# Altium footprint library AnchorBoard_SNS.PcbLib: 45 footprints (part 1 of 3)
Each footprint in its own frame and in the unit in brackets; x right, y up, seen from the top. Pads: shape width x height; smd on the part's side, far side on the other; paste and mask are expansions set on the pad; w line width, h text height; cw(c..) or ccw(c..) is an arc to the next point about the centre after c.
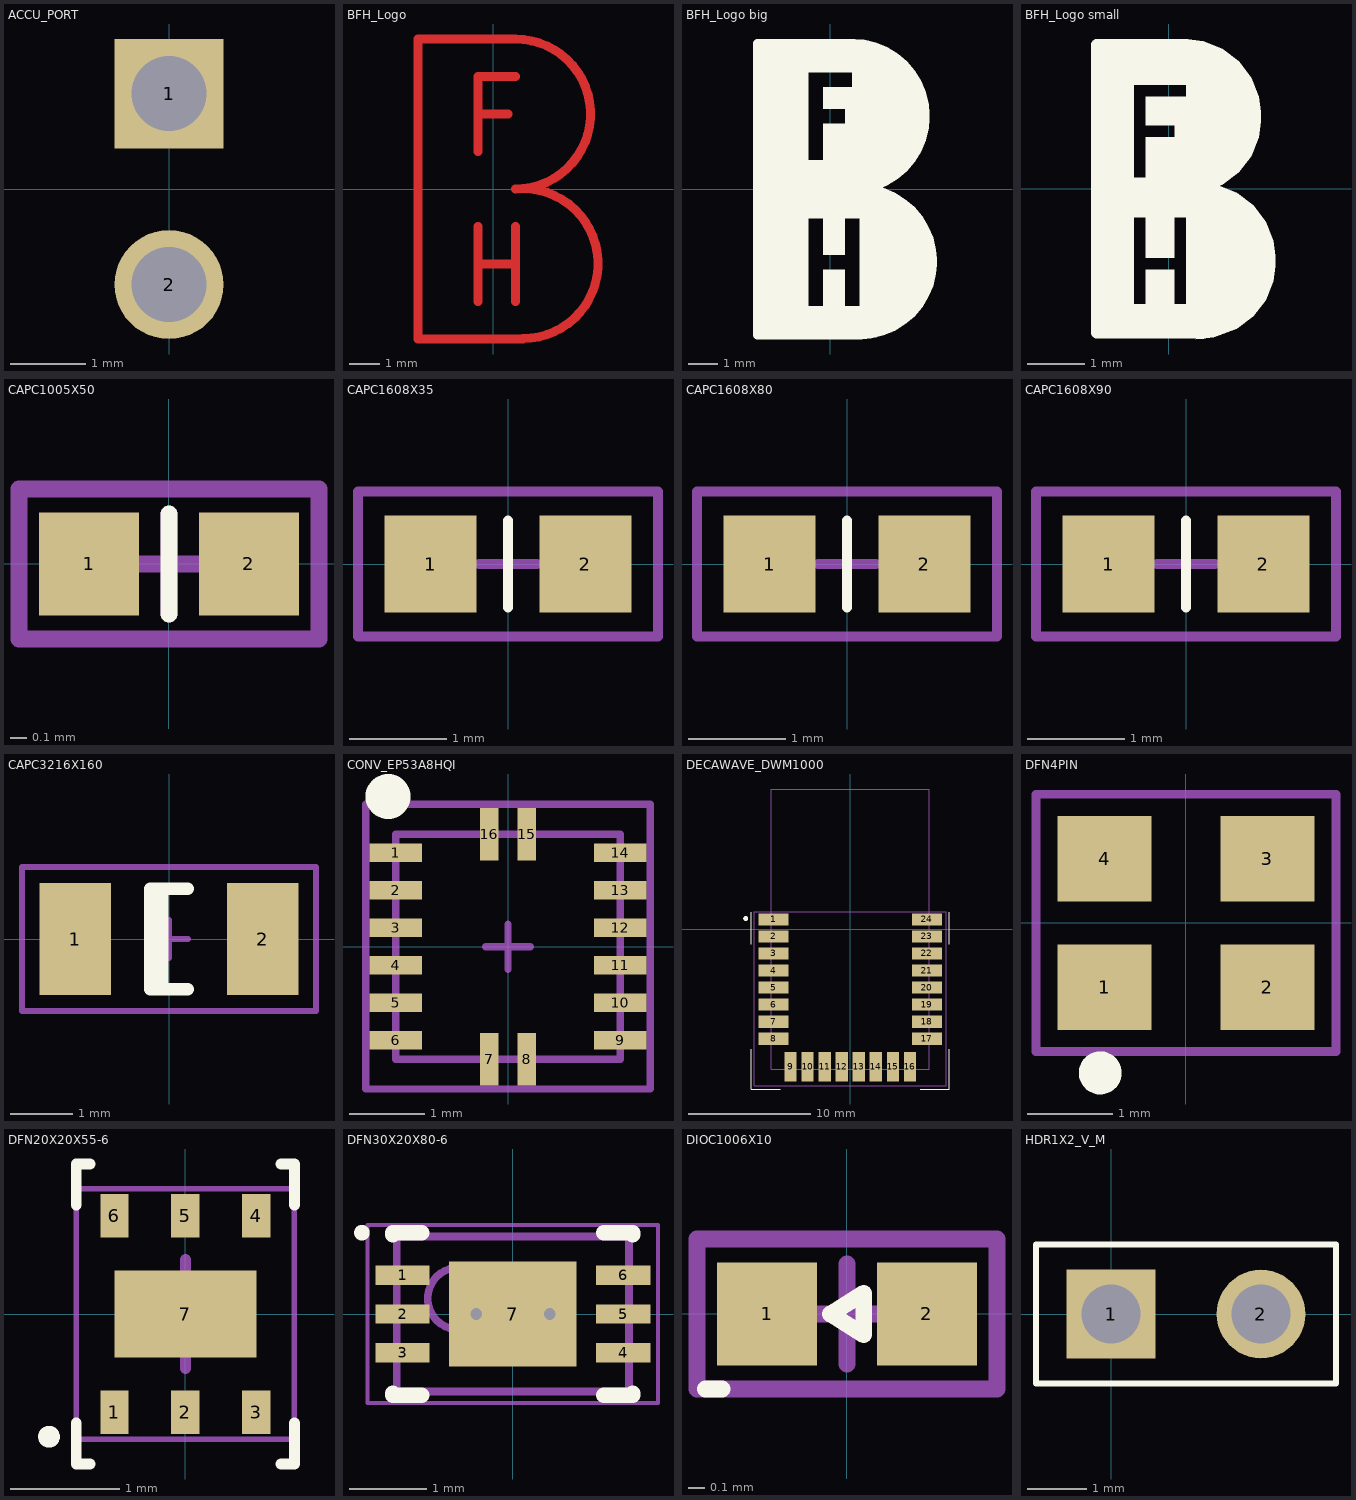
[diagram p0: the footprints below, top view; thin cyan lines are the x and y axes]

## ACCU_PORT [mm] "Cable Solder Holes"
height 5
pads (2):
  rect 1.455x1.455 hole 1: 1(0,1.27)
  round 1.45 hole 1: 2(0,-1.27)

## BFH_Logo [mm]
Top Layer:
  lines w0.3: -0.5,-3.75 -0.5,-1.25 ; -0.5,-2.5 0.75,-2.5 ; -0.5,1.25 -0.5,3.75 0.75,3.75 ; -0.5,2.5 0.5,2.5 ; 0.75,-3.75 0.75,-1.25 ; 0.75,0 cw(c0.999,-2.488) 0.999,-4.988 ; 0.999,0.012 ccw(c0.75,2.5) 0.75,5 -2.5,5 -2.5,-5 1,-5
Top Solder:
  lines w0.3: -0.5,-3.75 -0.5,-1.25 ; -0.5,-2.5 0.75,-2.5 ; -0.5,1.25 -0.5,3.75 0.75,3.75 ; -0.5,2.5 0.5,2.5 ; 0.75,-3.75 0.75,-1.25 ; 0.75,0 cw(c0.999,-2.488) 0.999,-4.988 ; 0.999,0.012 ccw(c0.75,2.5) 0.75,5 -2.5,5 -2.5,-5 1,-5

## BFH_Logo big [mm]
Top Overlay:
  rectangle: 1,-4.75 1.75,-1
  rectangle: -0.75,-5 1.5,-4
  rectangle: -0.25,-4 0.5,-2.75
  rectangle: -0.25,-2.25 0.5,-1
  rectangle: 0.5,2.25 0.75,2.75
  rectangle: -0.75,-1 1.5,1
  rectangle: -0.25,1 1,2.25
  rectangle: -0.25,2.75 0.75,3.5
  rectangle: 0.75,0 1.25,4
  rectangle: -0.75,4 1.5,5
  rectangle: -2.5,-5 -0.75,5
  region: 1.014,-0.137 0.98,-0.141 0.884,-0.103 0.836,0.012 0.926,0.156 0.984,0.162 1.155,0.179 1.094,0.176 1.117,0.179 1.094,0.223 1.1,0.25 1.1,4.75 1.1,4.812 1.112,4.811 1.117,4.821 0.912,4.853 0.75,4.85 0.72,4.85 0.635,4.885 0.587,5 0.635,5.115 0.72,5.15 0.75,5.15 0.854,5.15 1.166,5.126 1.572,5.028 1.957,4.869 2.313,4.651 2.63,4.38 2.901,4.063 3.119,3.707 3.278,3.322 3.376,2.916 3.4,2.604 3.4,2.5 3.4,2.396 3.376,2.084 3.278,1.678 3.119,1.293 2.901,0.937 2.63,0.62 2.313,0.349 1.957,0.131 1.572,-0.028 1.155,-0.123
  region: 0.999,-5.138 0.969,-5.138 0.884,-5.103 0.836,-4.988 0.884,-4.872 0.969,-4.837 0.999,-4.837 1.114,-4.837 1.094,-4.836 1.125,-4.834 1.095,-4.789 1.1,-4.75 1.1,-0.14 0.959,-0.134 0.823,-0.144 0.765,-0.15 0.731,-0.153 0.635,-0.115 0.587,0 0.677,0.144 0.735,0.15 0.905,0.167 1.192,0.157 1.256,0.15 1.317,0.148 1.25,0.152 1.274,0.148 1.413,0.134 1.82,0.041 2.206,-0.119 2.561,-0.337 2.879,-0.608 3.15,-0.925 3.368,-1.281 3.527,-1.666 3.625,-2.072 3.649,-2.383 3.649,-2.488 3.649,-2.592 3.625,-2.903 3.527,-3.309 3.368,-3.695 3.15,-4.05 2.879,-4.367 2.561,-4.638 2.206,-4.856 1.82,-5.016 1.415,-5.113 1.103,-5.138
  lines w0.3: 0.75,0 cw(c0.999,-2.488) 0.999,-4.988 ; 0.999,0.012 ccw(c0.75,2.5) 0.75,5 -2.5,5 -2.5,-5 1,-5

## BFH_Logo small [mm]
Top Overlay:
  rectangle: -0.4,-2 0.1,-1.4
  rectangle: -0.4,-1.2 0.1,-0.5
  rectangle: 0.3,1.6 0.6,1.9
  rectangle: 0.1,0.9 0.9,1.2
  rectangle: 0.3,-2 0.8,-0.4
  rectangle: -0.6,-0.5 0.8,0.2
  rectangle: -0.6,-2.4 0.8,-2
  rectangle: -0.4,0.2 0.9,0.9
  rectangle: -0.4,1.1 0.6,1.6
  rectangle: -0.6,1.8 0.6,2.5
  rectangle: -1.25,-2.5 -0.6,2.5
  region: 1.6,1.25 1.6,1.339 1.566,1.603 1.43,1.931 1.213,2.213 0.931,2.43 0.603,2.566 0.339,2.6 0.25,2.6 0.23,2.6 0.173,2.577 0.141,2.5 0.173,2.423 0.23,2.4 0.25,2.4 0.325,2.4 0.362,2.395 0.4,2.39 0.4,0.2 0.4,0.18 0.426,0.127 0.449,0.113 0.424,0.101 0.386,0.024 0.418,-0.053 0.49,-0.079 0.515,-0.074 0.623,-0.053 0.931,0.07 1.213,0.287 1.43,0.569 1.566,0.897 1.6,1.161
  region: 0.5,-2.6 0.48,-2.6 0.423,-2.577 0.391,-2.5 0.423,-2.423 0.48,-2.4 0.5,-2.4 0.575,-2.4 0.502,-2.4 0.502,-0.1 0.426,-0.1 0.5,-0.1 0.48,-0.1 0.423,-0.077 0.391,0 0.423,0.077 0.48,0.1 0.5,0.1 0.589,0.1 0.853,0.066 1.181,-0.07 1.463,-0.287 1.68,-0.569 1.816,-0.897 1.85,-1.161 1.85,-1.25 1.85,-1.339 1.816,-1.603 1.68,-1.931 1.463,-2.213 1.181,-2.43 0.781,-2.578 0.64,-2.593 0.612,-2.604 0.586,-2.599 0.581,-2.598 0.472,-2.604 0.5,-2.6
  lines w0.2: 0.25,2.5 -1.25,2.5 -1.25,-2.5 0.5,-2.5

## CAPC1005X50 [mm] "Chip Capacitor; 1.0x0.5mm"
height 0.5
pads (2):
  rect 0.6x0.62 smd: 1(-0.48,0) 2(0.48,0)
Top Overlay:
  lines w0.1: 0,-0.3 0,0.3
Mechanical 15:
  lines w0.1: -0.3,0 0.3,0 0,0 ; 0,-0.3 0,0.3 ; -0.9,-0.45 -0.9,0.45 0.9,0.45 0.9,-0.45 -0.9,-0.45
3D body: height 0.35, standoff 0, extent -0.3,-0.25 0.3,0.25
3D body: height 0.35, standoff 0, extent -0.5,-0.25 -0.3,0.25
3D body: height 0.35, standoff 0, extent 0.3,-0.25 0.5,0.25

## CAPC1608X35 [mm] "Chip Capacitor; 1.6x0.8mm"
height 0.35
pads (2):
  rect 0.95x1 smd: 1(-0.8,0) 2(0.8,0)
Top Overlay:
  lines w0.1: 0,-0.45 0,0.45
Mechanical 15:
  lines w0.1: -0.3,0 0.3,0 ; 0,-0.3 0,0.3 ; -1.55,-0.75 -1.55,0.75 1.55,0.75 1.55,-0.75 -1.55,-0.75
3D body: height 0.8, standoff 0, extent -0.4,-0.4 0.4,0.4
3D body: height 0.8, standoff 0, extent -0.8,-0.4 -0.4,0.4
3D body: height 0.8, standoff 0, extent 0.4,-0.4 0.8,0.4

## CAPC1608X80 [mm] "Chip Capacitor; 1.6x0.8mm"
height 0.8
pads (2):
  rect 0.95x1 smd: 1(-0.8,0) 2(0.8,0)
Top Overlay:
  lines w0.1: 0,-0.45 0,0.45
Mechanical 15:
  lines w0.1: -0.3,0 0.3,0 ; 0,-0.3 0,0.3 ; -1.55,-0.75 -1.55,0.75 1.55,0.75 1.55,-0.75 -1.55,-0.75
3D body: height 0.8, standoff 0, extent -0.4,-0.4 0.4,0.4
3D body: height 0.8, standoff 0, extent -0.8,-0.4 -0.4,0.4
3D body: height 0.8, standoff 0, extent 0.4,-0.4 0.8,0.4

## CAPC1608X90 [mm] "Chip Capacitor; 1.6x0.8mm"
height 0.9
pads (2):
  rect 0.95x1 smd: 1(-0.8,0) 2(0.8,0)
Top Overlay:
  lines w0.1: 0,-0.45 0,0.45
Mechanical 15:
  lines w0.1: -0.3,0 0.3,0 ; 0,-0.3 0,0.3 ; -1.55,-0.75 -1.55,0.75 1.55,0.75 1.55,-0.75 -1.55,-0.75
3D body: height 0.8, standoff 0, extent -0.4,-0.4 0.4,0.4
3D body: height 0.8, standoff 0, extent -0.8,-0.4 -0.4,0.4
3D body: height 0.8, standoff 0, extent 0.4,-0.4 0.8,0.4

## CAPC3216X160 [mm] "Chip Capacitor; 3.2x1.6mm"
height 1.6
pads (2):
  rect 1.15x1.8 smd: 1(-1.5,0) 2(1.5,0)
Top Overlay:
  lines w0.2: -0.11,-0.8 -0.11,0.8 ; 0.3,-0.8 -0.3,-0.8 -0.3,0.8 0.3,0.8
Mechanical 15:
  lines w0.1: -0.3,0 0.3,0 ; 0,-0.3 0,0.3 ; -2.35,-1.15 2.35,-1.15 2.35,1.15 -2.35,1.15 -2.35,-1.15
3D body: height 1.3, standoff 0, extent -1.1,-0.8 1.1,0.8
3D body: height 1.3, standoff 0, extent -1.6,-0.8 -1.1,0.8
3D body: height 1.3, standoff 0, extent 1.1,-0.8 1.6,0.8

## CONV_EP53A8HQI [mm]
height 1.1
pads (16):
  rect 0.7x0.25 smd paste-0.06 mask+0.05: 1(-1.5,1.25) 2(-1.5,0.75) 3(-1.5,0.25) 4(-1.5,-0.25) 5(-1.5,-0.75) 6(-1.5,-1.25) 9(1.5,-1.25) 10(1.5,-0.75) 11(1.5,-0.25) 12(1.5,0.25) 13(1.5,0.75) 14(1.5,1.25)
  rect 0.25x0.7 smd paste-0.06 mask+0.05: 7(-0.25,-1.5) 8(0.25,-1.5) 15(0.25,1.5) 16(-0.25,1.5)
Top Overlay:
  circle w0.4: c-1.6,2 r0.1
Mechanical 13:
  lines w0.1: -1.5,-1.5 -1.5,1.5 1.5,1.5 1.5,-1.5 -1.5,-1.5
Mechanical 15:
  lines w0.1: -0.3,0 0.3,0 ; 0,-0.3 0,0.3 ; -1.9,-1.9 1.9,-1.9 1.9,1.9 -1.9,1.9 -1.9,-1.9
  text "1" at -3,0.8 h1.52
3D body: height 1.1, standoff 0, extent -1.5,-1.5 1.5,1.5

## DECAWAVE_DWM1000 [mm] "DecaWave DWM1000 module"
height 4
pads (24):
  rect 2.45x1 smd: 1(-6.295,0.8) 2(-6.295,-0.6) 3(-6.295,-2) 4(-6.295,-3.4) 5(-6.295,-4.8) 6(-6.295,-6.2) 7(-6.295,-7.6) 8(-6.295,-9) 17(6.295,-9) 18(6.295,-7.6) 19(6.295,-6.2) 20(6.295,-4.8) 21(6.295,-3.4) 22(6.295,-2) 23(6.295,-0.6) 24(6.295,0.8)
  rect 1x2.45 smd: 9(-4.9,-11.295) 10(-3.5,-11.295) 11(-2.1,-11.295) 12(-0.7,-11.295) 13(0.7,-11.295) 14(2.1,-11.295) 15(3.5,-11.295) 16(4.9,-11.295)
Top Overlay:
  lines w0.1: -8.125,-9.875 -8.125,-13.125 -5.75,-13.125 ; -8.125,-1.25 -8.125,1.375 ; 5.75,-13.125 8.125,-13.125 8.125,-9.875 ; 8.125,-1.25 8.125,1.375
  lines w0.254: -8.502,0.894 ccw(c-8.579,0.875) -8.5,0.875
Mechanical 13:
  lines w0.1: -6.5,1.425 6.5,1.425 ; -6.5,-11.5 -6.5,11.5 6.5,11.5 6.5,-11.5 -6.5,-11.5
Mechanical 15:
  lines w0.1: -7.875,-12.875 7.875,-12.875 7.875,1.425 -7.875,1.425 -7.875,-12.875
3D body: height 2.9, standoff -0.01, extent -6.5,-11.475 6.5,11.525

## DFN4PIN [mm] "Oscillator Silicon Labs Si501"
height 0.9
pads (4):
  rect 1.1x1 smd: 1(-0.95,-0.75) 2(0.95,-0.75) 3(0.95,0.75) 4(-0.95,0.75)
Top Overlay:
  circle w0.25: c-1,-1.75 r0.125
Mechanical 15:
  lines w0.1: -1.75,-1.5 -1.75,1.5 1.75,1.5 1.75,-1.5 -1.75,-1.5
3D body: height 0.9, standoff 0, extent -1.225,-1 1.275,1
3D body: height 0.96, standoff 0.95, extent -1.097,-0.874 -0.5,-0.275

## DFN20X20X55-6 [mm] "MIC2039"
height 0.55
pads (7):
  rect 0.26x0.4 smd mask+0.102: 1(-0.65,-0.9) 2(0,-0.9) 3(0.65,-0.9) 4(0.65,0.9) 5(0,0.9) 6(-0.65,0.9)
  rect 1.3x0.8 smd mask+0.102: 7(0,0)
Top Overlay:
  circle w0.1: c-1.25,-1.125 r0.05
  lines w0.1: -1,-1 -1,-1.375 -0.875,-1.375 ; -1,1 -1,1.375 -0.875,1.375 ; 0.875,-1.375 1,-1.375 1,-1 ; 0.875,1.375 1,1.375 1,1
Mechanical 15:
  lines w0.05: -1,-1.15 -1,1.15 1,1.15 1,-1.15 -1,-1.15
  lines w0.1: -0.5,0 0.5,0 ; 0,-0.5 0,0.5

## DFN30X20X80-6 [mm] "LTC2941-1"
height 0.8
pads (7):
  rect 0.7x0.25 smd mask+0.08: 1(-1.425,0.5) 2(-1.425,0) 3(-1.425,-0.5) 4(1.425,-0.5) 5(1.425,0) 6(1.425,0.5)
  rect 1.65x1.35 smd paste-0.2 mask+0.102: 7(0,0)
via -0.475,0 diameter 0.65 hole 0.15
via 0.475,0 diameter 0.65 hole 0.15
Top Overlay:
  circle w0.1: c-1.95,1.05 r0.05
  lines w0.2: -1.55,-1.025 -1.55,-1.05 -1.175,-1.05 ; -1.55,1.025 -1.55,1.05 -1.175,1.05 ; 1.175,-1.05 1.55,-1.05 1.55,-1.025 ; 1.175,1.05 1.55,1.05 1.55,1.025
Mechanical 13:
  circle w0.1: c-0.7,0.2 r0.4
  lines w0.1: -1.5,-1 -1.5,1 1.5,1 1.5,-1 -1.5,-1
Mechanical 15:
  lines w0.05: -1.875,-1.15 -1.875,1.15 1.875,1.15 1.875,-1.15 -1.875,-1.15
  lines w0.1: -0.5,0 0.5,0 ; 0,-0.5 0,0.5
3D body: height 0.8, standoff 0, extent -1.5,-1 1.5,1

## DIOC1006X10 [mm] "Chip Diode 1x0.6mm"
height 0.1
pads (2):
  rect 0.6x0.62 smd: 1(-0.48,0) 2(0.48,0)
Top Overlay:
  lines w0.1: -0.85,-0.45 -0.75,-0.45 ; -0.1,0 0.1,0.125 0.1,0 0.1,-0.125 -0.1,0
Mechanical 15:
  lines w0.1: -0.3,0 0.3,0 0,0 ; 0,-0.3 0,0.3 ; -0.9,-0.45 -0.9,0.45 0.9,0.45 0.9,-0.45 -0.9,-0.45
3D body: height 0.35, standoff 0, extent -0.3,-0.25 0.3,0.25
3D body: height 0.35, standoff 0, extent -0.5,-0.25 -0.3,0.25
3D body: height 0.35, standoff 0, extent 0.3,-0.25 0.5,0.25

## HDR1X2_V_M [mm] "Connector; Header; 2 Position male"
height 8.3
pads (2):
  rect 1.5x1.5 hole 1: 1(0,0)
  round 1.5 hole 1: 2(2.54,0)
Top Overlay:
  lines w0.1: -1.27,-1.175 -1.27,1.175 3.81,1.175 3.81,-1.175 -1.27,-1.175
3D body: height 8.3, standoff 2.2, extent 2.24,-0.3 2.84,0.3
3D body: height 8.3, standoff 2.2, extent -0.3,-0.3 0.3,0.3
3D body: height 2.2, standoff 0, extent -1.3,-1.3 3.8,1.3
3D body: height 1.5, standoff 0, extent -0.3,-0.3 0.3,0.3
3D body: height 1.5, standoff 0, extent 2.24,-0.3 2.84,0.3